# Altium footprint library Generic Devices.PcbLib: 33 footprints (part 3 of 3)
Each footprint in its own frame and in the unit in brackets; x right, y up, seen from the top. Pads: shape width x height; smd on the part's side, far side on the other; paste and mask are expansions set on the pad; w line width, h text height; cw(c..) or ccw(c..) is an arc to the next point about the centre after c.
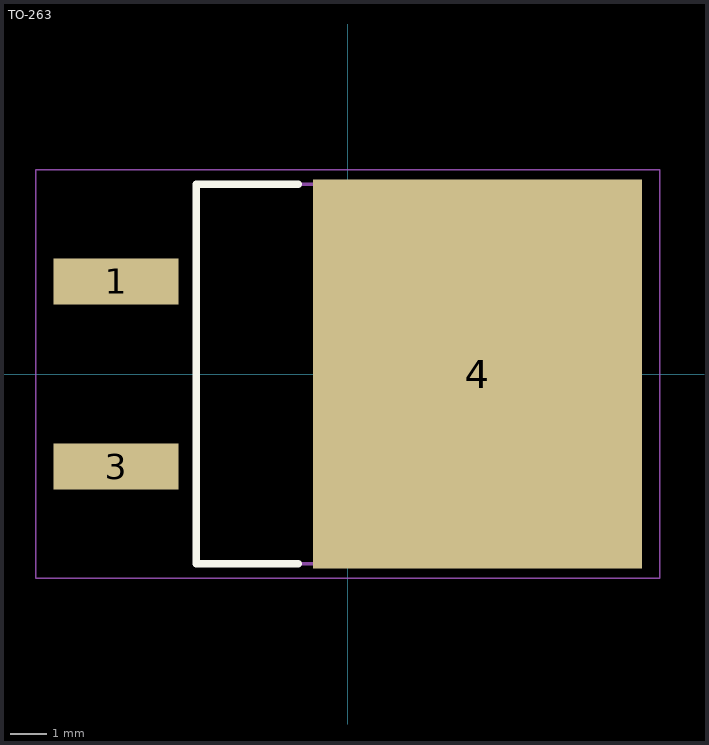
[diagram p2: the footprint, top view; thin cyan lines are the x and y axes]

## TO-263 [mil] "D2-PAK, 3-Pads, Body 7.93x8.57mm (max), IPC Medium Density"
height 190.16
pads (3):
  rect 135x49.49 smd: 1(-250,100) 3(-250,-100)
  rect 355x420 smd: 4(140,0)
Top Overlay:
  lines w7.87: -53.25,-204.72 -163.39,-204.72 -163.39,204.72 -53.25,204.72
Mechanical 13:
  lines w3.94: -163.39,-204.72 -163.39,204.72 216.54,204.72 216.54,-204.72 -163.39,-204.72
Mechanical 15:
  lines w1.97: -336.61,-220.47 -336.61,220.47 336.61,220.47 336.61,-220.47 -336.61,-220.47
  lines w3.94: -19.69,0 19.68,0 ; 0,-19.68 0,19.68
3D body "TO-263.step": height 190, standoff 0, extent -311.97,-204.72 288.03,204.72